# EAGLE library part UEXT-CON (library UEXT-Connecotr)
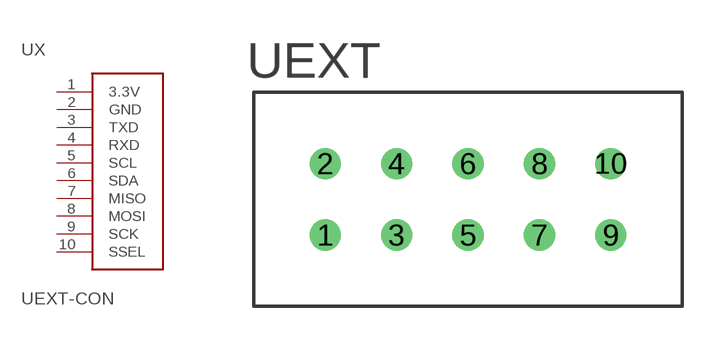
[diagram p0: symbol with the pads of UEXT-CON; footprint UEXT-CON]

Designator prefix UX

## UEXT-CON  [UEXT-CON]
1  3.3V
2  GND
3  TXD
4  RXD
5  SCL
6  SDA
7  MISO
8  MOSI
9  SCK
10  SSEL

## Footprint UEXT-CON (pad centres in mm)
drill 0.6: 1 -12.7,0; 2 -12.7,2.54; 3 -10.16,0; 4 -10.16,2.54; 5 -7.62,0; 6 -7.62,2.54; 7 -5.08,0; 8 -5.08,2.54; 9 -2.54,0; 10 -2.54,2.54